# Altium integrated library GAS ARRESTOR.IntLib: 1 symbol
Pins are listed as number, name and electrical type; pins without a type are passive.

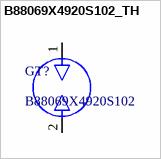
[diagram p0: symbol B88069X4920S102_TH]

## B88069X4920S102_TH
designator GT?, comment B88069X4920S102
Gas discharge tube 350V 10000A 20%; Package: TH; Value: *; MP: B88069X4920S102; Price: None; Supplier 1: Newark; Supplier Part Number 1: 14J5059
footprint GAS_ARRESTOR
pins: 1, 2